# Altium footprint library Reg_IFX.PcbLib: 1 footprints
Each footprint in its own frame and in the unit in brackets; x right, y up, seen from the top. Pads: shape width x height; smd on the part's side, far side on the other; paste and mask are expansions set on the pad; w line width, h text height; cw(c..) or ccw(c..) is an arc to the next point about the centre after c.
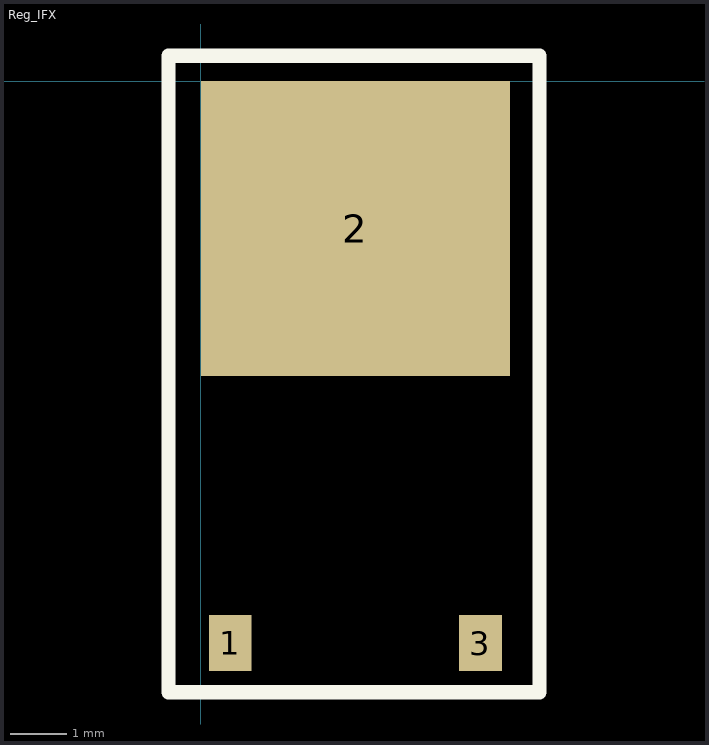
[diagram p0: the footprint, top view; thin cyan lines are the x and y axes]

## Reg_IFX [mm]
pads (3):
  rect 0.76x1 smd: 1(0.525,-10) 3(4.975,-10)
  rect 5.5x5.25 smd: 2(2.75,-2.625)
Top Overlay:
  lines w0.254: -0.575,-10.875 -0.575,0.45 6.025,0.45 6.025,-10.875 -0.575,-10.875